# Altium schematic symbol library CAT24C32WI-GT3.SchLib: 1 symbol
Pins are listed as number, name and electrical type; pins without a type are passive.

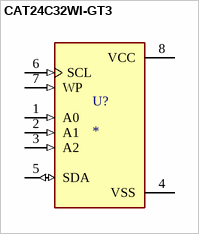
[diagram p0: symbol CAT24C32WI-GT3]

## CAT24C32WI-GT3
designator U?
EEPROM Memory IC 32Kb (4K x 8) I²C 1 MHz 400 ns 8-SOIC; MF: ON; MP: CAT24C32WI-GT3; SnapEDA_Link: https://www.snapeda.com/parts/CAT24C32WI-GT3/Onsemi/view-part/?ref=snap; Package: SOIC-8 ON; Value: *; Check_prices: https://www.snapeda.com/parts/CAT24C32WI-GT3/Onsemi/view-part/?ref=eda
footprint SOIC127P600X175-8N
pins: 1 A0 (in), 2 A1 (in), 3 A2 (in), 4 VSS, 5 SDA (io), 6 SCL (in), 7 WP (in), 8 VCC (power)